# Altium footprint library ebf_mp157 s1 dev board_20210223_PCB封装_AD格式.PcbLib: 69 footprints (part 5 of 5)
Each footprint in its own frame and in the unit in brackets; x right, y up, seen from the top. Pads: shape width x height; smd on the part's side, far side on the other; paste and mask are expansions set on the pad; w line width, h text height; cw(c..) or ccw(c..) is an arc to the next point about the centre after c.
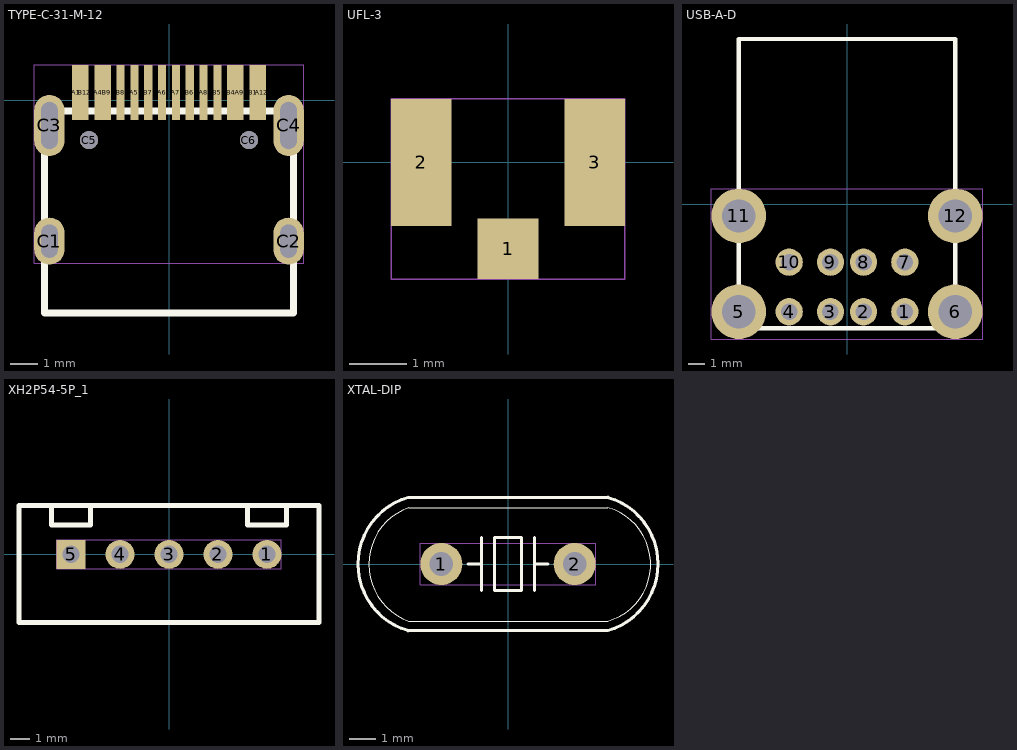
[diagram p4: the footprints below, top view; thin cyan lines are the x and y axes]

## TYPE-C-31-M-12 [mm]
pads (22):
  rect 0.3x2 smd mask+0.05: A1(-3.35,0.275) A4(-2.55,0.275) A5(-1.25,0.275) A6(-0.25,0.275) A7(0.25,0.275) A8(1.25,0.275) A9(2.55,0.275) A12(3.35,0.275) B1(3.05,0.275) B4(2.25,0.275) B5(1.75,0.275) B6(0.75,0.275) B7(-0.75,0.275) B8(-1.75,0.275) B9(-2.25,0.275) B12(-3.05,0.275)
  oval 1.1x1.7 hole 0.6 slot 1.2 at 90 deg mask+0.05: C1(-4.32,-5.095) C2(4.32,-5.095)
  oval 1.1x2.2 hole 0.6 slot 1.7 at 90 deg mask+0.05: C3(-4.32,-0.915) C4(4.32,-0.915)
  round 0.65 hole 0.65 unplated mask+0.05: C5(-2.89,-1.445) C6(2.89,-1.445)
Top Overlay:
  lines w0.254: -4.5,-7.695 4.5,-7.695 4.5,-0.395 -4.5,-0.395 -4.5,-7.695
Top Assembly:
  text "J14" at 1.385,0.635 h1.27
Mechanical 20:
  lines w0.025: -4.87,-5.895 4.87,-5.895 4.87,1.275 -4.87,1.275 -4.87,-5.895

## UFL-3 [mm]
pads (3):
  rect 1.05x1.05 smd mask+0.05: 1(0,-1.5)
  rect 1.05x2.2 smd mask+0.05: 2(-1.5,0) 3(1.5,0)
Top Assembly:
  text "CN4" at 1.684,0.635 h1.27
Mechanical 20:
  lines w0.025: -2.025,-2.025 2.025,-2.025 2.025,1.1 -2.025,1.1 -2.025,-2.025

## USB-A-D [mm]
pads (12):
  round 1.651 hole 1 mask+0.064: 1(3.5,-6.5) 2(1,-6.5) 3(-1,-6.5) 4(-3.5,-6.5) 7(3.5,-3.5) 8(1,-3.5) 9(-1,-3.5) 10(-3.5,-3.5)
  round 3.3 hole 2 mask+0.051: 5(-6.55,-6.5) 6(6.55,-6.5) 11(-6.55,-0.7) 12(6.55,-0.7)
Top Overlay:
  lines w0.254: -6.55,-7.5 6.55,-7.5 6.55,10 -6.55,10 -6.55,-7.5
Top Assembly:
  text "J30" at 1.454,0.635 h1.27
Mechanical 20:
  lines w0.025: -8.2,-8.15 8.2,-8.15 8.2,0.95 -8.2,0.95 -8.2,-8.15

## XH2P54-5P_1 [mm]
pads (5):
  round 1.5 hole 0.9 mask+0.05: 1(5.08,0) 2(2.54,0) 3(0,0) 4(-2.54,0)
  rect 1.5x1.5 / inner round 1.5 / far side rect 1.5x1.5 hole 0.9 mask+0.05: 5(-5.08,0)
Top Overlay:
  lines w0.254: -7.78,-3.54 -7.78,2.54 7.78,2.54 7.78,-3.54 -7.78,-3.54 ; -6.096,1.524 -6.096,2.54 -4.064,2.54 -4.064,1.524 -6.096,1.524 ; 4.064,1.524 4.064,2.54 6.096,2.54 6.096,1.524 4.064,1.524
Top Assembly:
  text "J4" at 0.919,0.635 h1.27
Mechanical 20:
  lines w0.025: -5.83,-0.75 5.83,-0.75 5.83,0.75 -5.83,0.75 -5.83,-0.75

## XTAL-DIP [mm]
pads (2):
  round 1.6 hole 0.9 mask+0.051: 1(-2.54,0) 2(2.54,0)
Top Overlay:
  lines w0.025: 3.796,-2.177 ccw(c3.197,-0.015) 3.8,2.146 ; 3.798,-2.176 -3.777,-2.176 cw(c-3.02,-0.015) -3.777,2.146 3.798,2.146
  lines w0.12: -3.812,2.539 ccw(c-3.07,0) -3.808,-2.541 ; -3.81,-2.54 3.81,-2.54 ; -3.81,2.54 3.81,2.54 ; -1.524,0 -1.016,0 ; -1.016,-1.016 -1.016,1.016 ; 1.016,-1.016 1.016,1.016 ; 1.016,0 1.524,0 ; 3.808,2.541 cw(c3.07,0) 3.812,-2.539 ; -0.508,-1.016 -0.508,1.016 0.508,1.016 0.508,-1.016 -0.508,-1.016
Top Assembly:
  text "Y7" at 0.989,0.635 h1.27
Mechanical 20:
  lines w0.025: -3.34,-0.8 3.34,-0.8 3.34,0.8 -3.34,0.8 -3.34,-0.8